# Altium footprint library Bauteile.PcbLib: 33 footprints (part 2 of 3)
Each footprint in its own frame and in the unit in brackets; x right, y up, seen from the top. Pads: shape width x height; smd on the part's side, far side on the other; paste and mask are expansions set on the pad; w line width, h text height; cw(c..) or ccw(c..) is an arc to the next point about the centre after c.
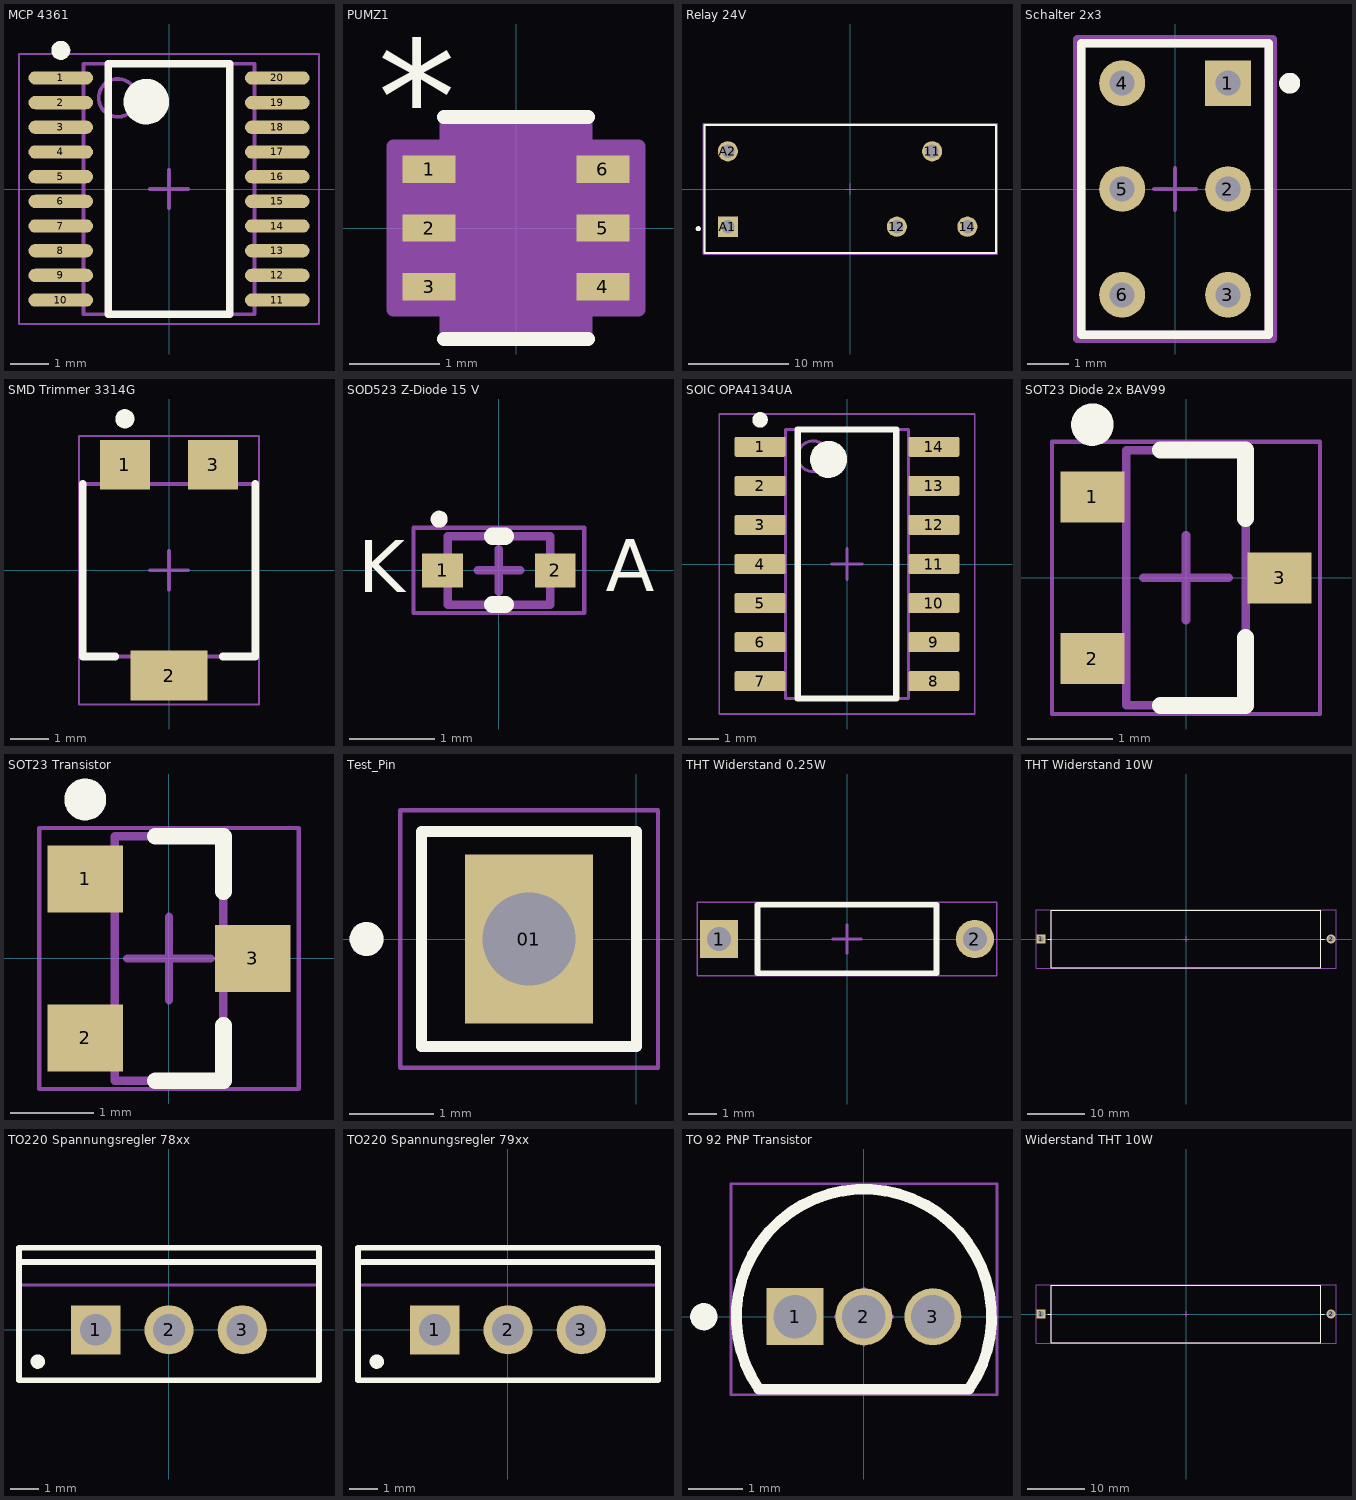
[diagram p1: the footprints below, top view; thin cyan lines are the x and y axes]

## MCP 4361 [mm] "TSOP, 20-Leads, Body 6.5x4.4mm, Pitch 0.65mm, IPC Medium Density"
height 1.2
pads (20):
  oval 1.7x0.35 smd: 1(-2.85,2.925) 2(-2.85,2.275) 3(-2.85,1.625) 4(-2.85,0.975) 5(-2.85,0.325) 6(-2.85,-0.325) 7(-2.85,-0.975) 8(-2.85,-1.625) 9(-2.85,-2.275) 10(-2.85,-2.925) 11(2.85,-2.925) 12(2.85,-2.275) 13(2.85,-1.625) 14(2.85,-0.975) 15(2.85,-0.325) 16(2.85,0.325) 17(2.85,0.975) 18(2.85,1.625) 19(2.85,2.275) 20(2.85,2.925)
Top Overlay:
  circle w0.6: c-0.6,2.3 r0.3
  circle w0.25: c-2.85,3.65 r0.125
  lines w0.2: -1.6,-3.3 1.6,-3.3 1.6,3.3 -1.6,3.3 -1.6,-3.3
Mechanical 13:
  circle w0.1: c-1.35,2.4 r0.5
  lines w0.1: -2.25,-3.3 2.25,-3.3 2.25,3.3 -2.25,3.3 -2.25,-3.3
Mechanical 15:
  lines w0.05: -3.95,-3.55 3.95,-3.55 3.95,3.55 -3.95,3.55 -3.95,-3.55
  lines w0.1: -0.5,0 0.5,0 ; 0,-0.5 0,0.5
3D body: height 1.2, standoff 0.05, extent -2.25,-3.3 2.25,3.3

## PUMZ1 [mil]
pads (6):
  rect 23x12 smd paste+0 mask+0: 1(-38,25.59) 2(-38,0) 3(-38,-25.59) 4(38,-25.59) 5(38,0) 6(38,25.59)
Top Overlay:
  lines w6: -31.5,-48.5 31.5,-48.5 ; -31.5,48.5 31.5,48.5
  text "*" at -60.5,32.59 h50
Mechanical 13:
  lines w0: -12,43.5 ccw(c0,43.5) 12,43.5
  lines w1: -43.5,-31.59 -43.5,-19.59 -26.5,-19.59 -26.5,-31.59 -43.5,-31.59 ; -43.5,-6 -43.5,6 -26.5,6 -26.5,-6 -43.5,-6 ; -43.5,19.59 -43.5,31.59 -26.5,31.59 -26.5,19.59 -43.5,19.59 ; -26.5,-43.5 26.5,-43.5 26.5,43.5 -26.5,43.5 -26.5,-43.5 ; 26.5,-31.59 26.5,-19.59 43.5,-19.59 43.5,-31.59 26.5,-31.59 ; 26.5,-6 26.5,6 43.5,6 43.5,-6 26.5,-6 ; 26.5,19.59 26.5,31.59 43.5,31.59 43.5,19.59 26.5,19.59
  text "*" at -24,-9.5 h50
Mechanical 15:
  region: -30.5,-35.59 -53.5,-35.59 -53.5,35.59 -30.5,35.59 -30.5,47.5 30.5,47.5 30.5,35.59 53.5,35.59 53.5,-35.59 30.5,-35.59 30.5,-47.5 -30.5,-47.5
  lines w6: -53.5,-35.59 -53.5,35.59 -30.5,35.59 -30.5,47.5 30.5,47.5 30.5,35.59 53.5,35.59 53.5,-35.59 30.5,-35.59 30.5,-47.5 -30.5,-47.5 -30.5,-35.59 -53.5,-35.59
3D body "SOT363_NXP.step": height 43.11, standoff 0, extent -43.5,-43.5 43.5,43.5

## Relay 24V [mm]
pads (5):
  round 2 hole 1.3 paste-1000 mask+0: 11(8.15,3.75) 12(4.65,-3.75) 14(11.65,-3.75) A2(-12.15,3.75)
  rect 2x2 hole 1.3 paste-1000 mask+0: A1(-12.15,-3.75)
Top Overlay:
  circle w0.25: c-15.1,-3.95 r0.125
  lines w0.2: -14.5,-6.35 -14.5,6.35 14.5,6.35 14.5,-6.35 -14.5,-6.35
Mechanical 5:
  lines w0.2: -14.6,-6.45 -14.6,6.45 14.6,6.45 14.6,-6.45 -14.6,-6.45
  text ".Designator" at 0,0.187 h1
Mechanical 13:
  lines w0.2: -14.5,-6.35 -14.5,6.35 14.5,6.35 14.5,-6.35 -14.5,-6.35
Mechanical 15:
  lines w0.2: -14.6,-6.45 -14.6,6.45 14.6,6.45 14.6,-6.45 -14.6,-6.45
Mechanical 16:
  lines w0.1: -0.5,0 0.5,0 ; 0,-0.5 0,0.5
3D body "Relay_TE_Connectivity_RTB14024F_eec.STEP": height 0.25, standoff 0, extent -14.6,-6.45 14.6,6.45

## Schalter 2x3 [mm]
pads (6):
  rect 1.1x1.1 hole 0.6 paste-1000 mask+0: 1(1.27,2.54)
  round 1.1 hole 0.6 paste-1000 mask+0: 2(1.27,0) 3(1.27,-2.54) 4(-1.27,2.54) 5(-1.27,0) 6(-1.27,-2.54)
Top Overlay:
  circle w0.25: c2.75,2.54 r0.125
  lines w0.2: -2.25,-3.5 -2.25,3.5 2.25,3.5 2.25,-3.5 -2.25,-3.5
Mechanical 5:
  lines w0.2: -2.35,-3.6 -2.35,3.6 2.35,3.6 2.35,-3.6 -2.35,-3.6
  text ".Designator" at 0,0.187 h1
Mechanical 13:
  lines w0.2: -2.25,-3.5 -2.25,3.5 2.25,3.5 2.25,-3.5 -2.25,-3.5
Mechanical 15:
  lines w0.2: -2.35,-3.6 -2.35,3.6 2.35,3.6 2.35,-3.6 -2.35,-3.6
Mechanical 16:
  lines w0.1: -0.5,0 0.5,0 ; 0,-0.5 0,0.5
3D body "Switch_NKK_Switches_G23AP_eec.STEP": height 0.25, standoff 0, extent -2.35,-3.6 2.35,3.6

## SMD Trimmer 3314G [mm] "SMD, 3-Leads, Body 4.5x4.5mm, Pitch 1.15mm"
height 2.8
pads (3):
  rect 1.3x1.3 smd: 1(-1.15,2.75) 3(1.15,2.75)
  rect 2x1.3 smd: 2(0,-2.75)
Top Overlay:
  circle w0.25: c-1.15,3.95 r0.125
  lines w0.2: -2.25,2.25 -2.25,-2.25 -1.4,-2.25 ; 1.4,-2.25 2.25,-2.25 2.25,2.25
Mechanical 13:
  lines w0.1: -2.25,-2.25 2.25,-2.25 2.25,2.25 -2.25,2.25 -2.25,-2.25
Mechanical 15:
  lines w0.05: -2.35,-3.5 2.35,-3.5 2.35,3.5 -2.35,3.5 -2.35,-3.5
  lines w0.1: -0.5,0 0.5,0 ; 0,-0.5 0,0.5
3D body "3314G1.stp": height 2.73, standoff 0, extent -2.499,-3.099 2.5,3.099

## SOD523 Z-Diode 15 V [mm] "SOD523 Z-Diode 15 V"
height 0.7
pads (2):
  rect 0.48x0.4 smd: 1(-0.66,0) 2(0.66,0)
Top Overlay:
  circle w0.1: c-0.7,0.6 r0.05
  lines w0.2: -0.074,-0.4 0.074,-0.4 ; -0.074,0.4 0.074,0.4
  text "A" at 1.254,-0.246 h0.61
  text "K" at -1.651,-0.254 h0.61
Mechanical 13:
  lines w0.1: -0.6,-0.4 0.6,-0.4 0.6,0.4 -0.6,0.4 -0.6,-0.4
Mechanical 15:
  lines w0.05: -1,-0.5 -1,0.5 1,0.5 1,-0.5 -1,-0.5
  lines w0.1: -0.25,0 0.25,0 ; 0,-0.25 0,0.25
3D body: height 0.7, standoff 0, extent -0.6,-0.4 0.6,0.4

## SOIC OPA4134UA [mm] "SOIC, 14-Leads, Body 8.75x4mm, Pitch 1.27mm, IPC Low Density"
height 1.75
pads (14):
  rrect15% 1.65x0.65 smd: 1(-2.825,3.81) 2(-2.825,2.54) 3(-2.825,1.27) 4(-2.825,0) 5(-2.825,-1.27) 6(-2.825,-2.54) 7(-2.825,-3.81) 8(2.825,-3.81) 9(2.825,-2.54) 10(2.825,-1.27) 11(2.825,0) 12(2.825,1.27) 13(2.825,2.54) 14(2.825,3.81)
Top Overlay:
  circle w0.6: c-0.6,3.4 r0.3
  circle w0.25: c-2.825,4.685 r0.125
  lines w0.2: -1.6,-4.375 1.6,-4.375 1.6,4.375 -1.6,4.375 -1.6,-4.375
Mechanical 1:
  text ".Designator" at -1.575,-0.325 h0.8
Mechanical 13:
  circle w0.1: c-1.1,3.5 r0.5
  lines w0.1: -2,-4.375 2,-4.375 2,4.375 -2,4.375 -2,-4.375
Mechanical 15:
  lines w0.05: -4.15,-4.875 4.15,-4.875 4.15,4.875 -4.15,4.875 -4.15,-4.875
  lines w0.1: -0.5,0 0.5,0 ; 0,-0.5 0,0.5
3D body "SOIC-14akaD0014AakaM14A.stp": height 1.59, standoff -0.01, extent -3.023,-4.318 3.022,4.318

## SOT23 Diode 2x BAV99 [mm] "SOT23, 3-Leads, Body 2.9x1.3 mm, Pitch 0.95 mm, IPC High Density"
height 1.1
pads (3):
  rect 0.75x0.6 smd: 1(-1.1,0.95) 2(-1.1,-0.95) 3(1.1,0)
Top Overlay:
  circle w0.25: c-1.1,1.8 r0.125
  lines w0.2: -0.3,-1.5 0.7,-1.5 0.7,-0.7 ; -0.3,1.5 0.7,1.5 0.7,0.7
Mechanical 13:
  lines w0.1: -0.7,-1.5 -0.7,1.5 0.7,1.5 0.7,-1.5 -0.7,-1.5
Mechanical 15:
  lines w0.05: -1.575,-1.6 -1.575,1.6 1.575,1.6 1.575,-1.6 -1.575,-1.6
  lines w0.1: -0.5,0 0.5,0 ; 0,-0.5 0,0.5
3D body: height 1.1, standoff 0.1, extent -0.7,-1.5 0.7,1.5

## SOT23 Transistor [mm] "SOT23, 3-Leads, Body 2.92x1.3mm, Pitch 0.95mm"
height 1.11
pads (3):
  rect 0.9x0.8 smd: 1(-1,0.95) 2(-1,-0.95) 3(1,0)
Top Overlay:
  circle w0.25: c-1,1.9 r0.125
  lines w0.2: -0.165,-1.46 0.65,-1.46 0.65,-0.8 ; -0.165,1.46 0.65,1.46 0.65,0.8
Mechanical 13:
  lines w0.1: -0.65,-1.46 -0.65,1.46 0.65,1.46 0.65,-1.46 -0.65,-1.46
Mechanical 15:
  lines w0.05: -1.55,-1.56 -1.55,1.56 1.55,1.56 1.55,-1.56 -1.55,-1.56
  lines w0.1: -0.5,0 0.5,0 ; 0,-0.5 0,0.5
3D body: height 1.11, standoff 0.01, extent -0.65,-1.46 0.65,1.46

## Test_Pin [mm]
pads (1):
  rect 1.508x2 / inner round 1.45 / far side rect 1.45x1.45 hole 1.1: 01(-1.27,0)
Top Overlay:
  circle w0.2: c-3.19,0 r0.1
  lines w0.127: -2.54,-1.27 0,-1.27 0,-0.635 0,0.635 0,1.27 -2.54,1.27 -2.54,-1.27
Mechanical 13:
  circle w0.2: c-3.19,0 r0.1
  lines w0.127: -2.54,-1.27 0,-1.27 0,-0.635 0,0.635 0,1.27 -2.54,1.27 -2.54,-1.27
Mechanical 15:
  lines w0.05: -2.79,-1.52 0.254,-1.52 0.254,1.52 -2.79,1.52 -2.79,-1.52

## THT Widerstand 0.25W [mm] "Axial Resistor, 2-Leads, Dia 2.4mm, Body Length 6.3mm"
height 2.6
pads (2):
  rect 1.35x1.35 hole 0.85: 1(-4.5,0)
  round 1.35 hole 0.85: 2(4.5,0)
Top Overlay:
  lines w0.2: -3.15,-1.2 -3.15,1.2 3.15,1.2 3.15,-1.2 -3.15,-1.2
Mechanical 13:
  lines w0.1: -3.15,-1.2 3.15,-1.2 3.15,1.2 -3.15,1.2 -3.15,-1.2
Mechanical 15:
  lines w0.05: -5.275,-1.3 -5.275,1.3 5.275,1.3 5.275,-1.3 -5.275,-1.3
  lines w0.1: -0.5,0 0.5,0 ; 0,-0.5 0,0.5
3D body: height 2.4, standoff 0, extent -3.15,-1.2 3.15,1.2

## THT Widerstand 10W [mm]
pads (2):
  rect 1.55x1.55 hole 1 paste-1000 mask+0: 1(-25.412,0)
  round 1.55 hole 1 paste-1000 mask+0: 2(25.412,0)
Top Overlay:
  lines w0.2: -24.237,0 -23.6,0 ; 23.6,0 24.237,0 ; -23.6,-5 -23.6,5 23.6,5 23.6,-5 -23.6,-5
Mechanical 5:
  lines w0.2: -26.287,-5.1 -26.287,5.1 26.287,5.1 26.287,-5.1 -26.287,-5.1
  text ".Designator" at 0,0.187 h1
Mechanical 13:
  lines w0.2: -23.6,-5 -23.6,5 23.6,5 23.6,-5 -23.6,-5
Mechanical 15:
  lines w0.2: -26.287,-5.1 -26.287,5.1 26.287,5.1 26.287,-5.1 -26.287,-5.1
Mechanical 16:
  lines w0.1: -0.5,0 0.5,0 ; 0,-0.5 0,0.5
3D body "Res_Ohmite_20J20K_eec.STEP": height 0.25, standoff 0, extent -26.287,-5.1 26.287,5.1

## TO220 Spannungsregler 78xx [mm] "TO, Thru-Hole, Vertical, Heatsink Mounted; 3 In-Line Leads; Pitch 2.54 mm"
height 19.7
pads (3):
  rect 1.7x1.7 hole 1.1: 1(-2.54,0)
  round 1.7 hole 1.1: 2(0,0) 3(2.54,0)
Top Overlay:
  circle w0.25: c-4.55,-1.1 r0.125
  lines w0.2: -5.2,2.35 5.2,2.35 ; -5.2,-1.75 5.2,-1.75 5.2,2.85 -5.2,2.85 -5.2,-1.75
Mechanical 13:
  lines w0.1: -5.2,1.55 5.2,1.55 ; -5.2,-1.75 -5.2,2.85 5.2,2.85 5.2,-1.75 -5.2,-1.75
Mechanical 15:
  lines w0.1: -0.5,0 0.5,0 ; 0,-0.5 0,0.5
3D body: height 13.05, standoff 3.5, extent -5.25,-1.8 5.25,2.9
3D body: height 19.7, standoff 13.05, extent -5.199,1.551 5.199,2.849

## TO220 Spannungsregler 79xx [mm] "TO, Thru-Hole, Vertical, Heatsink Mounted; 3 In-Line Leads; Pitch 2.54 mm"
height 19.7
pads (3):
  rect 1.7x1.7 hole 1.1: 1(-2.54,0)
  round 1.7 hole 1.1: 2(0,0) 3(2.54,0)
Top Overlay:
  circle w0.25: c-4.55,-1.1 r0.125
  lines w0.2: -5.2,2.35 5.2,2.35 ; -5.2,-1.75 5.2,-1.75 5.2,2.85 -5.2,2.85 -5.2,-1.75
Mechanical 13:
  lines w0.1: -5.2,1.55 5.2,1.55 ; -5.2,-1.75 -5.2,2.85 5.2,2.85 5.2,-1.75 -5.2,-1.75
Mechanical 15:
  lines w0.1: -0.5,0 0.5,0 ; 0,-0.5 0,0.5
3D body: height 13.05, standoff 3.5, extent -5.25,-1.8 5.25,2.9
3D body: height 19.7, standoff 13.05, extent -5.199,1.551 5.199,2.849

## TO 92 PNP Transistor [mm] "TO 92 PNP Transistor"
height 7.87
pads (3):
  rect 1.05x1.05 hole 0.8: 1(-1.27,0)
  round 1.05 hole 0.8: 2(0,0) 3(1.27,0)
Top Overlay:
  circle w0.25: c-2.95,0 r0.125
  lines w0.2: -1.934,-1.335 cw(c0,0) 1.934,-1.335 -1.934,-1.335
Mechanical 13:
  lines w0.1: -1.934,-1.335 cw(c0,0) 1.934,-1.335 -1.934,-1.335
Mechanical 15:
  lines w0.05: -2.45,-1.435 2.45,-1.435 2.45,2.45 -2.45,2.45 -2.45,-1.435
  lines w0.1: -0.5,0 0.5,0 ; 0,-0.5 0,0.5
3D body: height 7.87, standoff 2.54, extent -2.349,-1.334 2.357,2.359

## Widerstand THT 10W [mm]
pads (2):
  rect 1.55x1.55 hole 1 paste-1000 mask+0: 1(-25.412,0)
  round 1.55 hole 1 paste-1000 mask+0: 2(25.412,0)
Top Overlay:
  lines w0.2: -24.237,0 -23.6,0 ; 23.6,0 24.237,0 ; -23.6,-5 23.6,-5 23.6,5 -23.6,5 -23.6,-5
Mechanical 5:
  lines w0.2: -26.287,-5.1 26.287,-5.1 26.287,5.1 -26.287,5.1 -26.287,-5.1
  text ".Designator" at 0,0.187 h1
Mechanical 13:
  lines w0.2: -23.6,-5 23.6,-5 23.6,5 -23.6,5 -23.6,-5
Mechanical 15:
  lines w0.2: -26.287,-5.1 26.287,-5.1 26.287,5.1 -26.287,5.1 -26.287,-5.1
Mechanical 16:
  lines w0.1: -0.5,0 0.5,0 ; 0,-0.5 0,0.5
3D body "Res_Ohmite_20J20K_eec.STEP": height 0.25, standoff 0, extent -26.287,-5.1 26.287,5.1